# EAGLE library part CH32V467VET6 (library SamacSys_Parts)
RISC-V QingKe 32-bit MCU, 200MHz, 992KB Flash, 200KB SRAM, 8MB on-chip PSRAM (mapped at 0x80000000), 2x USB2.0 HS, Ethernet MAC+PHY, FSMC, SDIO, 3x SPI, 10x USART Pin assignment from CH32V407/V467 Datasheet V1.2, Table 2-1 (CH32V467VET6 column). Note: PE7, PE13, PE14 and PE15 are NOT bonded out on this package. Pin 48 is VDD18 (on-chip PSRAM 1.8V rail, 0.1uF || 2.2uF). VDD_MAIN (pin 46) is the main VDD and needs 0.1uF || 10uF. Source: WCH <https://www.wch-ic.com/>
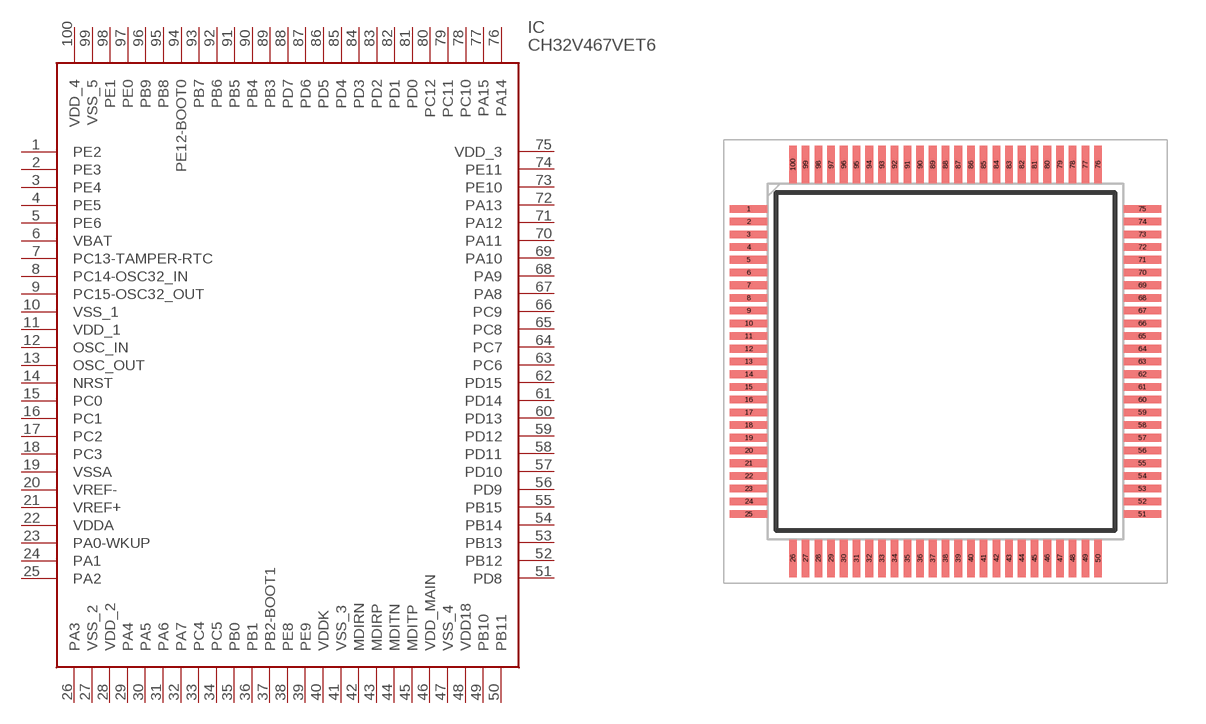
[diagram p0: symbol with the pads of QFP50P1600X1600X160-100N; footprint QFP50P1600X1600X160-100N]

Designator prefix IC

## CH32V467VET6 (DESCRIPTION: RISC-V QingKe 32-bit MCU, 200MHz, 992KB Flash, 200KB SRAM, 8MB on-chip PSRAM (mapped at 0x80000000), 2x USB2.0 HS, Ethernet MAC+PHY, FSMC, SDIO, 3x SPI, 10x USART; HEIGHT: 1.6mm; MANUFACTURER_NAME: WCH; MANUFACTURER_PART_NUMBER: CH32V467VET6)  [QFP50P1600X1600X160-100N]
1  PE2
2  PE3
3  PE4
4  PE5
5  PE6
6  VBAT
7  PC13-TAMPER-RTC
8  PC14-OSC32_IN
9  PC15-OSC32_OUT
10  VSS_1
11  VDD_1
12  OSC_IN
13  OSC_OUT
14  NRST
15  PC0
16  PC1
17  PC2
18  PC3
19  VSSA
20  VREF-
21  VREF+
22  VDDA
23  PA0-WKUP
24  PA1
25  PA2
26  PA3
27  VSS_2
28  VDD_2
29  PA4
30  PA5
31  PA6
32  PA7
33  PC4
34  PC5
35  PB0
36  PB1
37  PB2-BOOT1
38  PE8
39  PE9
40  VDDK
41  VSS_3
42  MDIRN
43  MDIRP
44  MDITN
45  MDITP
46  VDD_MAIN
47  VSS_4
48  VDD18
49  PB10
50  PB11
51  PD8
52  PB12
53  PB13
54  PB14
55  PB15
56  PD9
57  PD10
58  PD11
59  PD12
60  PD13
61  PD14
62  PD15
63  PC6
64  PC7
65  PC8
66  PC9
67  PA8
68  PA9
69  PA10
70  PA11
71  PA12
72  PA13
73  PE10
74  PE11
75  VDD_3
76  PA14
77  PA15
78  PC10
79  PC11
80  PC12
81  PD0
82  PD1
83  PD2
84  PD3
85  PD4
86  PD5
87  PD6
88  PD7
89  PB3
90  PB4
91  PB5
92  PB6
93  PB7
94  PE12-BOOT0
95  PB8
96  PB9
97  PE0
98  PE1
99  VSS_5
100  VDD_4

## Footprint QFP50P1600X1600X160-100N (pad centres in mm)
LQFP100-1
smd 1.475 x 0.3: 1 -7.738,6; 2 -7.738,5.5; 3 -7.738,5; 4 -7.738,4.5; 5 -7.738,4; 6 -7.738,3.5; 7 -7.738,3; 8 -7.738,2.5; 9 -7.738,2; 10 -7.738,1.5; 11 -7.738,1; 12 -7.738,0.5; 13 -7.738,0; 14 -7.738,-0.5; 15 -7.738,-1; 16 -7.738,-1.5; 17 -7.738,-2; 18 -7.738,-2.5; 19 -7.738,-3; 20 -7.738,-3.5; 21 -7.738,-4; 22 -7.738,-4.5; 23 -7.738,-5; 24 -7.738,-5.5; 25 -7.738,-6; 51 7.738,-6; 52 7.738,-5.5; 53 7.738,-5; 54 7.738,-4.5; 55 7.738,-4; 56 7.738,-3.5; 57 7.738,-3; 58 7.738,-2.5; 59 7.738,-2; 60 7.738,-1.5; 61 7.738,-1; 62 7.738,-0.5; 63 7.738,0; 64 7.738,0.5; 65 7.738,1; 66 7.738,1.5; 67 7.738,2; 68 7.738,2.5; 69 7.738,3; 70 7.738,3.5; 71 7.738,4; 72 7.738,4.5; 73 7.738,5; 74 7.738,5.5; 75 7.738,6
smd 0.3 x 1.475: 26 -6,-7.738; 27 -5.5,-7.738; 28 -5,-7.738; 29 -4.5,-7.738; 30 -4,-7.738; 31 -3.5,-7.738; 32 -3,-7.738; 33 -2.5,-7.738; 34 -2,-7.738; 35 -1.5,-7.738; 36 -1,-7.738; 37 -0.5,-7.738; 38 0,-7.738; 39 0.5,-7.738; 40 1,-7.738; 41 1.5,-7.738; 42 2,-7.738; 43 2.5,-7.738; 44 3,-7.738; 45 3.5,-7.738; 46 4,-7.738; 47 4.5,-7.738; 48 5,-7.738; 49 5.5,-7.738; 50 6,-7.738; 76 6,7.738; 77 5.5,7.738; 78 5,7.738; 79 4.5,7.738; 80 4,7.738; 81 3.5,7.738; 82 3,7.738; 83 2.5,7.738; 84 2,7.738; 85 1.5,7.738; 86 1,7.738; 87 0.5,7.738; 88 0,7.738; 89 -0.5,7.738; 90 -1,7.738; 91 -1.5,7.738; 92 -2,7.738; 93 -2.5,7.738; 94 -3,7.738; 95 -3.5,7.738; 96 -4,7.738; 97 -4.5,7.738; 98 -5,7.738; 99 -5.5,7.738; 100 -6,7.738